# Altium schematic symbol library ICs.SchLib: 25 symbols
Pins are listed as number, name and electrical type; pins without a type are passive.

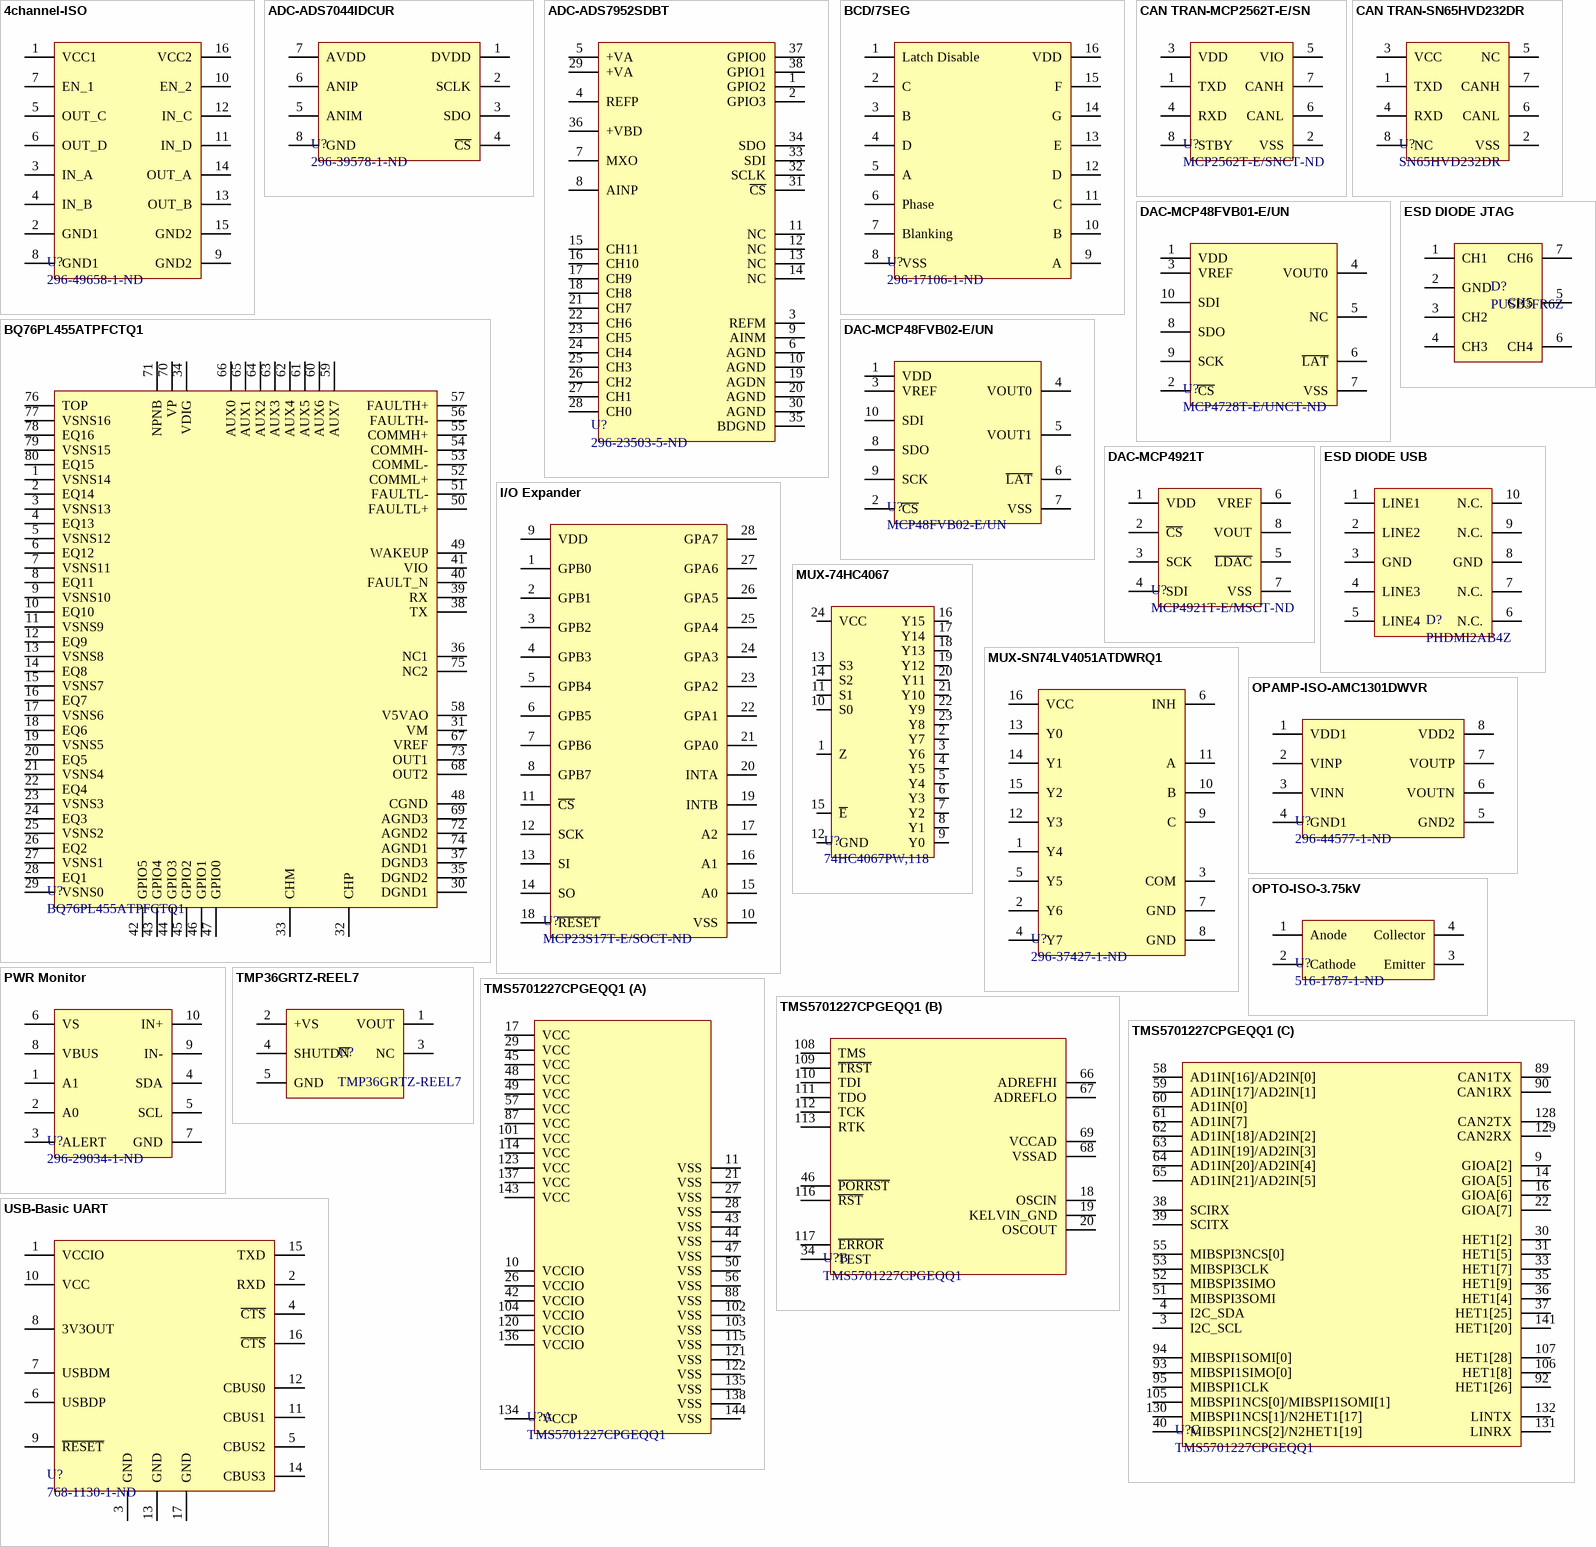
[diagram p0: symbols 4channel-ISO to USB-Basic UART]

## 4channel-ISO
designator U?, comment 296-49658-1-ND
DGTL ISO 2500VRMS 4CH GP 16SSOP; Manufacturer: Texas Instruments; Manufacturer Part Number: ISO7742DBQR; Number of Channels: 4; Isolated Power: No; Channel Type: Unidirectional; Data Rate: 100Mbps; Propagation Delay: 16ns; Pulse Width Distortion (PWD): 4.9ns; Supplier 1: Digi-Key; Stock 1: 0; Pricing 1: 1=2.99, 10=2.689, 25=2.5424, 100=2.0905, 250=1.8758, 500=1.808, 1000=1.5029 (USD); Mount: Surface Mount; Case/Package: SSOP; Number of Pins: 16; Min Operating Temperature: -55°C; Max Operating Temperature: 125°C; Type: General Purpose; Packaging: Tape and Reel; ComponentLink1URL: http://www.ti.com/lit/ds/symlink/iso7742.pdf?src-supplier=Digi-Key; ComponentLink1Description: http://www.ti.com/lit/ds/symlink/iso7742.pdf?src-supplier=Digi-Key; Supplier Part Number 1: 296-49658-6-ND
footprint 16-SSOP (SOP, 16-Leads, Body 4.91x3.90mm, Pitch 0.64mm, IPC Medium Density)
pins: 1 VCC1, 2 GND1, 3 IN_A, 4 IN_B, 5 OUT_C, 6 OUT_D, 7 EN_1, 8 GND1, 9 GND2, 10 EN_2, 11 IN_D, 12 IN_C, 13 OUT_B, 14 OUT_A, 15 GND2, 16 VCC2

## ADC-ADS7044IDCUR
designator U?, comment 296-39578-1-ND
IC ADC 12BIT SAR 8VSSOP; Manufacturer: Texas Instruments; Manufacturer Part Number: ADS7044IDCUT; Number of Bits: 12; Sampling Rate: 1MS/s; Number of Inputs: 1; Interface: SPI; Resolution: 12b; Polarity: Unipolar; Signal to Noise Ratio (SNR): 71dB; Supply Type: Analog,Digital; Max Power Dissipation: 900uW; Min Dual Supply Voltage: 1.8V; Max Supply Voltage: 3.6V; Integral Nonlinearity (INL): 2LSB; Supplier 1: Digi-Key; Stock 1: 68; Pricing 1: 1=2.66, 10=2.385, 25=2.2544, 100=1.8537 (USD); Mount: Surface Mount; Case/Package: SOP; Number of Pins: 8; Weight: 0.030018oz; Contact Plating: Gold; Min Operating Temperature: -40°C; Max Operating Temperature: 125°C; Packaging: Tape and Reel; Number of A/D Converters: 1; Number of Analog Inputs: 1; Number of Channels: 1; Package Quantity: 250; Max Dual Supply Voltage: 3.6V; Lead Free: Lead Free; ComponentLink1URL: http://www.ti.com/general/docs/lit/getliterature.tsp?genericPartNumber=ADS7044&&fileType=pdf&src-supplier=Avnet; ComponentLink1Description: http://www.ti.com/general/docs/lit/getliterature.tsp?genericPartNumber=ADS7044&&fileType=pdf&src-supplier=Avnet; ComponentLink2URL: http://www.ti.com/lit/ds/symlink/ads7044.pdf?src-supplier=Digi-Key; ComponentLink2Description: http://www.ti.com/lit/ds/symlink/ads7044.pdf?src-supplier=Digi-Key; ComponentLink3URL: http://www.ti.com/lit/gpn/ads7044?src-supplier=Mouser; ComponentLink3Description: http://www.ti.com/lit/gpn/ads7044?src-supplier=Mouser; Supplier Part Number 1: 296-39578-6-ND
footprint 8VSSOP (TSSOP, 8-Leads, Body 2.00x2.30mm, Pitch 0.50mm, IPC Medium Density)
pins: 1 DVDD, 2 SCLK, 3 SDO, 4 ~{CS}, 5 ANIM, 6 ANIP, 7 AVDD, 8 GND

## ADC-ADS7952SDBT
designator U?, comment 296-23503-5-ND
IC ADC 12BIT SAR 38TSSOP; Manufacturer: Texas Instruments; Manufacturer Part Number: ADS7952SDBT; Nominal Supply Current: 2.3mA; Min Supply Voltage: 2.7V; Max Supply Voltage: 5.25V; Operating Supply Voltage: 3.3V; Interface: SPI; Number of Channels: 12; Sampling Rate: 1MS/s; Number of Converters: 1; Resolution: 12b; Polarity: Unipolar; Supply Type: Analog,Digital,Single; Integral Nonlinearity (INL): 1.5LSB; Signal to Noise Ratio (SNR): 71.7dB; Power Consumption: 11.5mW; Full Scale Error: 2LSB; Power Dissipation: 14.5mW; Supplier 1: Digi-Key; Stock 1: 1436; Pricing 1: 1=9.3, 10=8.4, 25=8.0092, 100=6.6419, 250=6.05584, 500=5.66516, 1000=5.0791 (USD); Mount: Surface Mount; Case/Package: TSSOP; Number of Pins: 38; Contact Plating: Gold; Min Operating Temperature: -40°C; Max Operating Temperature: 125°C; Packaging: Rail/Tube; Package Quantity: 50; Number of Bits: 12; Number of Elements: 1; Number of A/D Converters: 1; Number of Analog Inputs: 12; Conversion Rate: 1MS/s; Number of Inputs: 12; Radiation Hardening: No; REACH SVHC: No SVHC; Lead Free: Lead Free; ComponentLink1URL: http://www.ti.com/general/docs/lit/getliterature.tsp?genericPartNumber=ADS7954&&fileType=pdf&src-supplier=Avnet; ComponentLink1Description: http://www.ti.com/general/docs/lit/getliterature.tsp?genericPartNumber=ADS7954&&fileType=pdf&src-supplier=Avnet; ComponentLink2URL: http://www.ti.com/lit/ds/symlink/ads7952.pdf?src-supplier=Digi-Key; ComponentLink2Description: http://www.ti.com/lit/ds/symlink/ads7952.pdf?src-supplier=Digi-Key; ComponentLink3URL: http://www.produktinfo.conrad.com/datenblaetter/1100000-1199999/001186285-da-01-en-IC_ADC_12BIT_1M_ADS7952SDBT_TSSOP_38_TID.pdf?src-supplier=Conrad; ComponentLink3Description: http://www.produktinfo.conrad.com/datenblaetter/1100000-1199999/001186285-da-01-en-IC_ADC_12BIT_1M_ADS7952SDBT_TSSOP_38_TID.pdf?src-supplier=Conrad; Supplier Part Number 1: 296-23503-5-ND
footprint 38-TSSOP (TSSOP, 38-Leads, Body 9.70x4.40mm, Pitch 0.50mm, IPC Medium Density)
pins: 1 GPIO2, 2 GPIO3, 3 REFM, 4 REFP, 5 +VA, 6 AGND, 7 MXO, 8 AINP, 9 AINM, 10 AGND, 11 NC, 12 NC, 13 NC, 14 NC, 15 CH11, 16 CH10, 17 CH9, 18 CH8, 19 AGDN, 20 AGND, 21 CH7, 22 CH6, 23 CH5, 24 CH4, 25 CH3, 26 CH2, 27 CH1, 28 CH0, 29 +VA, 30 AGND, 31 ~{CS}, 32 SCLK, 33 SDI, 34 SDO, 35 BDGND, 36 +VBD, 37 GPIO0, 38 GPIO1

## BCD/7SEG
designator U?, comment 296-17106-1-ND
IC DRVR 7 SEGMNT 1 DIGIT 16TSSOP; Manufacturer: Texas Instruments; Manufacturer Part Number: CD4543BPWR; Number of Inputs: 4; Number of Outputs: 7; Propagation Delay: 400ns; Max Supply Voltage: 18V; Min Supply Voltage: 3V; Number of Elements: 1; Operating Supply Current: 40nA; Logic Function: Demultiplexer,Decoder; Polarity: Non-Inverting; Turn-On Delay Time: 1200ns; High Level Output Current: -3.33mA; Low Level Output Current: 4.2mA; Quiescent Current: 100uA; Bandwidth: 8MHz; Display Type: LCD; Supplier 1: Digi-Key; Stock 1: 1758; Pricing 1: 1=0.42, 10=0.359, 100=0.2682, 500=0.21074, 1000=0.16284 (USD); Case/Package: TSSOP; Number of Pins: 16; Weight: 0.002183oz; Contact Plating: Gold; Min Operating Temperature: -55°C; Max Operating Temperature: 125°C; Packaging: Tape and Reel; Package Quantity: 1; Min Input Voltage: 3V; Number of Input Lines: 4; Number of Output Lines: 7; Number of Bits: 7; Number of Channels: 4; Lead Free: Lead Free; ComponentLink1URL: http://www.ti.com/general/docs/lit/getliterature.tsp?genericPartNumber=CD4543B&&fileType=pdf&src-supplier=Avnet; ComponentLink1Description: http://www.ti.com/general/docs/lit/getliterature.tsp?genericPartNumber=CD4543B&&fileType=pdf&src-supplier=Avnet; ComponentLink2URL: http://www.ti.com/lit/ds/symlink/cd4543b.pdf?src-supplier=Digi-Key; ComponentLink2Description: http://www.ti.com/lit/ds/symlink/cd4543b.pdf?src-supplier=Digi-Key; Supplier Part Number 1: 296-17106-6-ND
footprint 16-TSSOP (TSOP, 16-Leads, Body 5.00x4.40mm, Pitch 0.65mm, IPC Medium Density)
pins: 1 Latch Disable , 2 C, 3 B, 4 D, 5 A, 6 Phase, 7 Blanking , 8 VSS, 9 A, 10 B, 11 C, 12 D, 13 E, 14 G, 15 F, 16 VDD

## BQ76PL455ATPFCTQ1
designator U?
IC BATT MONITOR/PROTECT 80TQFP; Manufacturer: Texas Instruments; Supplier 1: Digi-Key; Manufacturer Part Number: BQ76PL455ATPFCTQ1; Stock 1: 226; Pricing 1: 1=20.82, 10=19.132, 25=18.3392, 100=15.3652 (USD); Mount: Surface Mount; Case/Package: TQFP; Contact Plating: Gold; Min Operating Temperature: -40°C; Max Operating Temperature: 105°C; Lead Free: Lead Free; ComponentLink1URL: http://www.ti.com/lit/pdf/sluub67?src-supplier=Digi-Key; ComponentLink1Description: http://www.ti.com/lit/pdf/sluub67?src-supplier=Digi-Key; ComponentLink2URL: http://www.ti.com/lit/gpn/bq76pl455a-q1?src-supplier=Mouser; ComponentLink2Description: http://www.ti.com/lit/gpn/bq76pl455a-q1?src-supplier=Mouser; ComponentLink3URL: http://www.ti.com/general/docs/lit/getliterature.tsp?genericPartNumber=BQ76PL455A-Q1&&fileType=pdf&src-supplier=Avnet; ComponentLink3Description: http://www.ti.com/general/docs/lit/getliterature.tsp?genericPartNumber=BQ76PL455A-Q1&&fileType=pdf&src-supplier=Avnet; ComponentLink4URL: http://www.ti.com/general/docs/suppproductinfo.tsp?distId=10&amp;gotoUrl=http%3A%2F%2Fwww.ti.com%2Flit%2Fgpn%2Fbq76pl455a-q1&src-supplier=Digi-Key; ComponentLink4Description: http://www.ti.com/general/docs/suppproductinfo.tsp?distId=10&amp;gotoUrl=http%3A%2F%2Fwww.ti.com%2Flit%2Fgpn%2Fbq76pl455a-q1&src-supplier=Digi-Key; Supplier Part Number 1: 296-48288-6-ND
footprint BQ76PL455A (TSQFP, 80-Leads, Body 12.00x12.00mm, Pitch 0.50mm, IPC Medium Density)
pins: 1 VSNS14, 2 EQ14, 3 VSNS13, 4 EQ13, 5 VSNS12, 6 EQ12, 7 VSNS11, 8 EQ11, 9 VSNS10, 10 EQ10, 11 VSNS9, 12 EQ9, 13 VSNS8, 14 EQ8, 15 VSNS7, 16 EQ7, 17 VSNS6, 18 EQ6, 19 VSNS5, 20 EQ5, 21 VSNS4, 22 EQ4, 23 VSNS3, 24 EQ3, 25 VSNS2, 26 EQ2, 27 VSNS1, 28 EQ1, 29 VSNS0, 30 DGND1, 31 VM, 32 CHP, 33 CHM, 34 VDIG, 35 DGND2, 36 NC1, 37 DGND3, 38 TX, 39 RX, 40 FAULT_N, 41 VIO, 42 GPIO5, 43 GPIO4, 44 GPIO3, 45 GPIO2, 46 GPIO1, 47 GPIO0, 48 CGND, 49 WAKEUP, 50 FAULTL+, 51 FAULTL-, 52 COMML+, 53 COMML-, 54 COMMH-, 55 COMMH+, 56 FAULTH-, 57 FAULTH+, 58 V5VAO, 59 AUX7, 60 AUX6, 61 AUX5, 62 AUX4, 63 AUX3, 64 AUX2, 65 AUX1, 66 AUX0, 67 VREF, 68 OUT2, 69 AGND3, 70 VP, 71 NPNB, 72 AGND2, 73 OUT1, 74 AGND1, 75 NC2, 76 TOP, 77 VSNS16, 78 EQ16, 79 VSNS15, 80 EQ15

## CAN TRAN-MCP2562T-E/SN
designator U?, comment MCP2562T-E/SNCT-ND
IC TRANSCEIVER HALF 1/1 8SOIC; Manufacturer: Microchip; Propagation Delay: 125ns; Data Rate: 1Mbps; Nominal Supply Current: 85uA; Max Supply Voltage: 5.5V; Min Supply Voltage: 4.5V; Number of Transceivers: 1; Receiver Hysteresis: 200mV; Supplier 1: Digi-Key; Manufacturer Part Number: MCP2562T-E/SN; Stock 1: 0; Pricing 1: 1=0.9, 25=0.75, 100=0.68 (USD); Mount: Surface Mount; Case/Package: SOIC; Number of Pins: 8; Min Operating Temperature: -40°C; Max Operating Temperature: 125°C; Packaging: Tape and Reel; Package Quantity: 3300; Turn-On Delay Time: 125ns; Radiation Hardening: No; Lead Free: Lead Free; ComponentLink1URL: http://ww1.microchip.com/downloads/en/DeviceDoc/25167B.pdf?src-supplier=Digi-Key; ComponentLink1Description: http://ww1.microchip.com/downloads/en/DeviceDoc/25167B.pdf?src-supplier=Digi-Key; ComponentLink2URL: http://ww1.microchip.com/downloads/en/DeviceDoc/25167B.pdf?src-supplier=Avnet; ComponentLink2Description: http://ww1.microchip.com/downloads/en/DeviceDoc/25167B.pdf?src-supplier=Avnet; Supplier Part Number 1: MCP2562T-E/SNDKR-ND
footprint 8-SOIC w/o THRM (SOIC, 8-Leads, Body 4.90x3.90mm, Pitch 1.27mm, IPC Medium Density)
pins: 1 TXD, 2 VSS, 3 VDD, 4 RXD, 5 VIO, 6 CANL, 7 CANH, 8 STBY

## CAN TRAN-SN65HVD232DR
designator U?, comment SN65HVD232DR
IC TRANSCEIVER HALF 1/1 8SOIC; Manufacturer: Texas Instruments; Data Rate: 1Mbps; Min Supply Voltage: 3V; Max Supply Voltage: 3.6V; Nominal Supply Current: 17mA; Number of Transceivers: 1; Supplier 1: Digi-Key; Manufacturer Part Number: SN65HVD232DR; Stock 1: 13746; Pricing 1: 1=1.95, 10=1.749, 25=1.65, 100=1.32, 250=1.155, 500=1.122, 1000=0.891 (USD); Case/Package: D; Number of Pins: 8; Weight: 0.002561oz; Min Operating Temperature: -40°C; Max Operating Temperature: 85°C; Packaging: Tape and Reel; Package Quantity: 1; Number of Transmit Buffers: 1; Number of Receive Buffers: 1; Number of Drivers: 1; Number of Receivers: 1; Radiation Hardening: No; REACH SVHC: No SVHC; Lead Free: Lead Free; ComponentLink1URL: https://www.verical.com/server-webapp/html/getDatasheet?partID=107534&src-supplier=Verical; ComponentLink1Description: https://www.verical.com/server-webapp/html/getDatasheet?partID=107534&src-supplier=Verical; ComponentLink2URL: http://www.ti.com/lit/ds/symlink/sn65hvd230.pdf?src-supplier=Digi-Key; ComponentLink2Description: http://www.ti.com/lit/ds/symlink/sn65hvd230.pdf?src-supplier=Digi-Key; Supplier Part Number 1: 296-26344-6-ND
footprint 8-SOIC w/o THRM (SOIC, 8-Leads, Body 4.90x3.90mm, Pitch 1.27mm, IPC Medium Density)
pins: 1 TXD, 2 VSS, 3 VCC, 4 RXD, 5 NC, 6 CANL, 7 CANH, 8 NC

## DAC-MCP48FVB01-E/UN
designator U?, comment MCP4728T-E/UNCT-ND
IC DAC 12BIT V-OUT 10MSOP; Manufacturer: Microchip; Interface: I2C,Serial,2-Wire; Number of DAC Channels: 4; Number of Bits: 12; Settling Time: 6us; Differential Output: No; Resolution: 12b; Min Supply Voltage: 2.7V; Max Supply Voltage: 5.5V; Polarity: Unipolar; Integral Nonlinearity (INL): 13LSB; Output Type: Voltage; Supplier 1: Digi-Key; Manufacturer Part Number: MCP4728T-E/UN; Stock 1: 10584; Pricing 1: 1=1.89, 25=1.58, 100=1.44 (USD); Mount: Surface Mount; Case/Package: MSOP; Number of Pins: 10; Min Operating Temperature: -40°C; Max Operating Temperature: 125°C; Number of Channels: 4; Package Quantity: 2500; Packaging: Tape and Reel; Number of D/A Converters: 4; Number of Converters: 4; Length: 3mm; Height: 0.95mm; Width: 3mm; Radiation Hardening: No; Lead Free: Lead Free; ComponentLink1URL: http://ww1.microchip.com/downloads/en/DeviceDoc/22187E.pdf?src-supplier=Avnet; ComponentLink1Description: http://ww1.microchip.com/downloads/en/DeviceDoc/22187E.pdf?src-supplier=Avnet; ComponentLink2URL: http://www.microchip.com/mymicrochip/filehandler.aspx?ddocname=en542384&src-supplier=Future+Electronics; ComponentLink2Description: http://www.microchip.com/mymicrochip/filehandler.aspx?ddocname=en542384&src-supplier=Future+Electronics; ComponentLink3URL: http://ww1.microchip.com/downloads/en/DeviceDoc/22187E.pdf?src-supplier=Digi-Key; ComponentLink3Description: http://ww1.microchip.com/downloads/en/DeviceDoc/22187E.pdf?src-supplier=Digi-Key; Supplier Part Number 1: MCP4728T-E/UNDKR-ND
footprint 10MSOP (TSSOP, 10-Leads, Body 3.00x3.00mm, Pitch 0.50mm, IPC Medium Density)
pins: 1 VDD, 2 ~{CS}, 3 VREF, 4 VOUT0, 5 NC, 6 ~{LAT}, 7 VSS, 8 SDO, 9 SCK, 10 SDI

## DAC-MCP48FVB02-E/UN
designator U?, comment MCP48FVB02-E/UN
IC DAC 8BIT V-OUT 10MSOP; Manufacturer: Microchip; Number of Bits: 8; Number of D/A Converters: 2; Settling Time: 7.8us; Differential Output: No; Interface: SPI; Resolution: 8b; Supplier 1: Digi-Key; Manufacturer Part Number: MCP48FVB02-E/UN; Stock 1: 418; Pricing 1: 1=1.16, 25=0.97, 100=0.88 (USD); Case/Package: MSOP; Number of Pins: 10; Min Operating Temperature: -40°C; Max Operating Temperature: 125°C; Packaging: Rail/Tube; REACH SVHC: No SVHC; ComponentLink1URL: http://www.farnell.com/datasheets/2002391.pdf?src-supplier=Element14; ComponentLink1Description: http://www.farnell.com/datasheets/2002391.pdf?src-supplier=Element14; ComponentLink2URL: http://www.farnell.com/datasheets/2002391.pdf?src-supplier=Farnell; ComponentLink2Description: http://www.farnell.com/datasheets/2002391.pdf?src-supplier=Farnell; ComponentLink3URL: http://www.microchip.com/mymicrochip/filehandler.aspx?ddocname=en576860&src-supplier=Digi-Key; ComponentLink3Description: http://www.microchip.com/mymicrochip/filehandler.aspx?ddocname=en576860&src-supplier=Digi-Key; Supplier Part Number 1: MCP48FVB02-E/UN-ND
footprint 10MSOP (TSSOP, 10-Leads, Body 3.00x3.00mm, Pitch 0.50mm, IPC Medium Density)
pins: 1 VDD, 2 ~{CS}, 3 VREF, 4 VOUT0, 5 VOUT1, 6 ~{LAT}, 7 VSS, 8 SDO, 9 SCK, 10 SDI

## DAC-MCP4921T
designator U?, comment MCP4921T-E/MSCT-ND
IC DAC 12BIT V-OUT 8MSOP; Manufacturer: Microchip; Interface: SPI,Serial; Number of DAC Channels: 1; Operating Supply Voltage: 5V; Min Supply Voltage: 2.7V; Max Supply Voltage: 5.5V; Settling Time: 4.5us; Number of Bits: 12; Resolution: 12b; Supply Type: Single; Integral Nonlinearity (INL): 12LSB; Input Offset Voltage (Vos): 820uV; Nominal Supply Current: 175uA; Output Type: Voltage; Supplier 1: Digi-Key; Manufacturer Part Number: MCP4921T-E/MS; Stock 1: 3345; Pricing 1: 1=1.97, 25=1.64, 100=1.49 (USD); Mount: Surface Mount; Case/Package: MSOP; Number of Pins: 8; Min Operating Temperature: -40°C; Max Operating Temperature: 125°C; Packaging: Tape and Reel; Number of Channels: 1; Package Quantity: 1; Number of Converters: 1; Radiation Hardening: No; REACH SVHC: No SVHC; Lead Free: Lead Free; ComponentLink1URL: http://ww1.microchip.com/downloads/en/DeviceDoc/22248a.pdf?src-supplier=Avnet; ComponentLink1Description: http://ww1.microchip.com/downloads/en/DeviceDoc/22248a.pdf?src-supplier=Avnet; ComponentLink2URL: http://www.microchip.com/mymicrochip/filehandler.aspx?ddocname=en023833&src-supplier=Digi-Key; ComponentLink2Description: http://www.microchip.com/mymicrochip/filehandler.aspx?ddocname=en023833&src-supplier=Digi-Key; ComponentLink3URL: http://ww1.microchip.com/downloads/en/DeviceDoc/22248a.pdf?src-supplier=Element14; ComponentLink3Description: http://ww1.microchip.com/downloads/en/DeviceDoc/22248a.pdf?src-supplier=Element14; ComponentLink4URL: http://ww1.microchip.com/downloads/en/DeviceDoc/22248a.pdf?src-supplier=Avnet+Europe; ComponentLink4Description: http://ww1.microchip.com/downloads/en/DeviceDoc/22248a.pdf?src-supplier=Avnet+Europe; ComponentLink5URL: http://www.microchip.com/mymicrochip/filehandler.aspx?ddocname=en547911&src-supplier=Future+Electronics; ComponentLink5Description: http://www.microchip.com/mymicrochip/filehandler.aspx?ddocname=en547911&src-supplier=Future+Electronics; ComponentLink6URL: http://www.produktinfo.conrad.com/datenblaetter/1000000-1099999/001083287-da-01-en-IC_DAC_12_W_SPI_MCP4921T_E_MS_MSOP_8_MCP.pdf?src-supplier=Conrad; ComponentLink6Description: http://www.produktinfo.conrad.com/datenblaetter/1000000-1099999/001083287-da-01-en-IC_DAC_12_W_SPI_MCP4921T_E_MS_MSOP_8_MCP.pdf?src-supplier=Conrad; Supplier Part Number 1: MCP4921T-E/MSDKR-ND
footprint 8MSOP (TSOP, 8-Leads, Body 3.00x3.00mm, Pitch 0.65mm, IPC Medium Density)
pins: 1 VDD, 2 ~{CS}, 3 SCK, 4 SDI, 5 ~{LDAC}, 6 VREF, 7 VSS, 8 VOUT

## ESD DIODE JTAG
designator D?, comment PUSB3FR6Z
3V (Typ) Clamp 5A (8/20µs) Ipp Tvs Diode Surface Mount 7-XSON (1.1x2.1); Manufacturer 1: Nexperia; Supplier 1: RSComponents; Manufacturer Part Number 1: PUSB3FR6Z; Stock 1: 0; Supplier Part Number 1: 1513163P
footprint XSON-7
pins: 1 CH1, 2 GND, 3 CH2, 4 CH3, 5 CH5, 6 CH4, 7 CH6

## ESD DIODE USB
designator D?, comment PHDMI2AB4Z
5V (Typ) Clamp 7A (8/20µs) Ipp Tvs Diode Surface Mount DFN2510A-10; Manufacturer 1: Nexperia; Supplier 1: Digi-Key; Manufacturer Part Number 1: PHDMI2AB4Z; Stock 1: 0; Pricing 1: 5000=0.1276, 10000=0.11704, 25000=0.11264, 50000=0.11, 125000=0.1056 (USD); Supplier Part Number 1: 1727-7820-2-ND
footprint DFN2510A-10
pins: 1 LINE1, 2 LINE2, 3 GND, 4 LINE3, 5 LINE4, 6 N.C., 7 N.C., 8 GND, 9 N.C., 10 N.C.

## I/O Expander
designator U?, comment MCP23S17T-E/SOCT-ND
IC I/O EXPANDER SPI 16B 28SOIC; Manufacturer: Microchip; Interface: SPI,Serial; Min Supply Voltage: 4.5V; Max Supply Voltage: 5.5V; Number of Channels: 1; Nominal Supply Current: 1mA; Number of I/Os: 16; Power Dissipation: 700mW; Frequency: 10MHz; Supplier 1: Digi-Key; Manufacturer Part Number: MCP23S17T-E/SO; Stock 1: 3657; Pricing 1: 1=1.26, 25=1.05, 100=0.95 (USD); Mount: Surface Mount; Case/Package: SOIC; Number of Pins: 28; Min Operating Temperature: -40°C; Max Operating Temperature: 125°C; Packaging: Tape and Reel; Package Quantity: 1600; Max Frequency: 10MHz; Number of Bits: 16; REACH SVHC: No SVHC; Lead Free: Lead Free; ComponentLink1URL: http://ww1.microchip.com/downloads/en/DeviceDoc/21952b.pdf?src-supplier=Digi-Key; ComponentLink1Description: http://ww1.microchip.com/downloads/en/DeviceDoc/21952b.pdf?src-supplier=Digi-Key; ComponentLink2URL: http://www.farnell.com/datasheets/12179.pdf?src-supplier=Element14; ComponentLink2Description: http://www.farnell.com/datasheets/12179.pdf?src-supplier=Element14; ComponentLink3URL: http://www.microchip.com/mymicrochip/filehandler.aspx?ddocname=en023709&src-supplier=Future+Electronics; ComponentLink3Description: http://www.microchip.com/mymicrochip/filehandler.aspx?ddocname=en023709&src-supplier=Future+Electronics; ComponentLink4URL: http://ww1.microchip.com/downloads/en/DeviceDoc/21952b.pdf?src-supplier=Avnet+Europe; ComponentLink4Description: http://ww1.microchip.com/downloads/en/DeviceDoc/21952b.pdf?src-supplier=Avnet+Europe; ComponentLink5URL: http://ww1.microchip.com/downloads/en/DeviceDoc/21952b.pdf?src-supplier=Farnell; ComponentLink5Description: http://ww1.microchip.com/downloads/en/DeviceDoc/21952b.pdf?src-supplier=Farnell; ComponentLink6URL: http://www.mouser.com/ds/2/268/21952b-70868.pdf?src-supplier=Mouser; ComponentLink6Description: http://www.mouser.com/ds/2/268/21952b-70868.pdf?src-supplier=Mouser; Supplier Part Number 1: MCP23S17T-E/SODKR-ND
footprint 28-SOIC (SOIC, 28-Leads, Body 17.90x7.50mm, Pitch 1.27mm, IPC Medium Density)
pins: 1 GPB0, 2 GPB1, 3 GPB2, 4 GPB3, 5 GPB4, 6 GPB5, 7 GPB6, 8 GPB7, 9 VDD, 10 VSS, 11 ~{CS}, 12 SCK, 13 SI, 14 SO, 15 A0, 16 A1, 17 A2, 18 ~{RESET}, 19 INTB, 20 INTA, 21 GPA0, 22 GPA1, 23 GPA2, 24 GPA3, 25 GPA4, 26 GPA5, 27 GPA6, 28 GPA7

## MUX-74HC4067
designator U?, comment 74HC4067PW,118
IC MUX/DEMUX 1X16 24TSSOP; Manufacturer: Nexperia USA; Supplier 1: Digi-Key; Manufacturer Part Number: 74HC4067PW,118; Stock 1: 7949; Pricing 1: 1=0.87, 10=0.779, 25=0.7392, 100=0.6072, 250=0.5676, 500=0.5016, 1000=0.396 (USD); ComponentLink1URL: https://assets.nexperia.com/documents/data-sheet/74HC_HCT4067.pdf?src-supplier=Digi-Key; ComponentLink1Description: https://assets.nexperia.com/documents/data-sheet/74HC_HCT4067.pdf?src-supplier=Digi-Key; Supplier Part Number 1: 1727-2042-6-ND
footprint 24-TSSOP (TSOP, 24-Leads, Body 7.80x4.40mm, Pitch 0.65mm, IPC Medium Density)
pins: 1 Z, 2 Y7, 3 Y6, 4 Y5, 5 Y4, 6 Y3, 7 Y2, 8 Y1, 9 Y0, 10 S0, 11 S1, 12 GND, 13 S3, 14 S2, 15 ~{E}, 16 Y15, 17 Y14, 18 Y13, 19 Y12, 20 Y11, 21 Y10, 22 Y9, 23 Y8, 24 VCC

## MUX-SN74LV4051ATDWRQ1
designator U?, comment 296-37427-1-ND
IC MUX/DEMUX 8X1 16SOIC; Manufacturer: Texas Instruments; Manufacturer Part Number: SN74LV4051ATDWRQ1; Max Supply Voltage: 5.5V; Min Supply Voltage: 2V; Bandwidth: 35MHz; Propagation Delay: 7ns; Number of Inputs: 8; Number of Outputs: 1; Logic Function: Multiplexer,Demultiplexer; On-State Resistance: 75R; Operating Supply Current: 20uA; Turn-On Delay Time: 20ns; Supply Type: Single; Supplier 1: Digi-Key; Stock 1: 2359; Pricing 1: 1=0.7, 10=0.617, 25=0.5796, 100=0.4731, 250=0.43944, 500=0.374, 1000=0.2992 (USD); Mount: Surface Mount; Case/Package: SOIC; Number of Pins: 16; Weight: 0.014829oz; Min Operating Temperature: -40°C; Max Operating Temperature: 105°C; Packaging: Tape and Reel; Package Quantity: 2000; Number of Channels: 1; Turn-Off Delay Time: 20ns; Number of Circuits: 1; -3db Bandwidth: 35MHz; Number of Bits: 8; Radiation Hardening: No; Lead Free: Lead Free; ComponentLink1URL: https://www.verical.com/server-webapp/html/getDatasheet?partID=348177&src-supplier=Verical; ComponentLink1Description: https://www.verical.com/server-webapp/html/getDatasheet?partID=348177&src-supplier=Verical; ComponentLink2URL: http://focus.ti.com/lit/ds/symlink/sn74lv4051a-q1.pdf?src-supplier=Avnet; ComponentLink2Description: http://focus.ti.com/lit/ds/symlink/sn74lv4051a-q1.pdf?src-supplier=Avnet; ComponentLink3URL: http://www.ti.com/lit/ds/symlink/sn74lv4051a-q1.pdf?src-supplier=Digi-Key; ComponentLink3Description: http://www.ti.com/lit/ds/symlink/sn74lv4051a-q1.pdf?src-supplier=Digi-Key; Supplier Part Number 1: 296-37427-6-ND
footprint 16-SOIC (SOIC, 16-Leads, Body 10.30x7.50mm, Pitch 1.27mm, IPC Medium Density)
pins: 1 Y4, 2 Y6, 3 COM, 4 Y7, 5 Y5, 6 INH, 7 GND, 8 GND, 9 C, 10 B, 11 A, 12 Y3, 13 Y0, 14 Y1, 15 Y2, 16 VCC

## OPAMP-ISO-AMC1301DWVR
designator U?, comment 296-44577-1-ND
IC OPAMP ISOLATION 1 CIRC 8SOIC; Manufacturer: Texas Instruments; Manufacturer Part Number: AMC1301DWVR; Number of Circuits: 1; Gain Bandwidth Product: 1MHz; Input Bias Current: 60uA; Input Offset Voltage (Vos): 50uV; Operating Supply Current: 5.9mA; Output Current per Channel: 13mA; Isolation Voltage: 1kV; Bandwidth: 210kHz; Supplier 1: Digi-Key; Stock 1: 2458; Pricing 1: 1=6.07, 10=5.487, 25=5.2316, 100=4.3384, 250=3.9556, 500=3.7004 (USD); Mount: Surface Mount; Case/Package: SOIC; Number of Pins: 8; Min Operating Temperature: -40°C; Max Operating Temperature: 125°C; Packaging: Cut Tape; Number of Amplifiers: 1; REACH SVHC: No SVHC; Lead Free: Lead Free; ComponentLink1URL: http://www.ti.com/lit/wp/sszy024/sszy024.pdf?src-supplier=Digi-Key; ComponentLink1Description: http://www.ti.com/lit/wp/sszy024/sszy024.pdf?src-supplier=Digi-Key; ComponentLink2URL: http://www.ti.com/lit/ds/symlink/amc1301.pdf?src-supplier=Farnell; ComponentLink2Description: http://www.ti.com/lit/ds/symlink/amc1301.pdf?src-supplier=Farnell; ComponentLink3URL: http://www.farnell.com/datasheets/2113482.pdf?src-supplier=Element14; ComponentLink3Description: http://www.farnell.com/datasheets/2113482.pdf?src-supplier=Element14; Supplier Part Number 1: 296-44577-6-ND
footprint 8-SOICW (SOIC, 8-Leads, Body 5.85x7.50mm, Pitch 1.27mm, IPC Medium Density)
pins: 1 VDD1, 2 VINP, 3 VINN, 4 GND1, 5 GND2, 6 VOUTN, 7 VOUTP, 8 VDD2

## OPTO-ISO-3.75kV
designator U?, comment 516-1787-1-ND
OPTOISO 3.75KV TRANS 4MINIFLAT; Manufacturer: Broadcom Avago; Manufacturer Part Number: HCPL-181-00BE; Number of Channels: 1; Collector Emitter Voltage (VCEO): 80V; Forward Current: 50mA; Forward Voltage: 1.4V; Rise Time: 18000ns; Max Power Dissipation: 170mW; Reverse Breakdown Voltage: 6V; Collector Emitter Saturation Voltage: 200mV; Current Transfer Ratio: 260%; Input Current: 20mA; Approvals: UL,CSA,VDE; Supplier 1: Digi-Key; Stock 1: 94429; Pricing 1: 1=0.56, 10=0.433, 100=0.2778, 500=0.23886, 1000=0.18443 (USD); Mount: Surface Mount; Case/Package: SMD/SMT; Number of Pins: 4; Min Operating Temperature: -55°C; Max Operating Temperature: 100°C; Packaging: Tape and Reel; Max Output Voltage: 80V; Output Current per Channel: 50mA; Isolation Voltage: 3.75kV; Package Quantity: 1; Max Collector Current: 50mA; Max Input Current: 50mA; Fall Time: 18000ns; Number of Elements: 1; Power Dissipation: 170mW; Number of Circuits: 1; Radiation Hardening: No; REACH SVHC: No SVHC; Lead Free: Lead Free; ComponentLink1URL: http://www.farnell.com/datasheets/317140.pdf?src-supplier=Farnell; ComponentLink1Description: http://www.farnell.com/datasheets/317140.pdf?src-supplier=Farnell; ComponentLink2URL: http://uk.rs-online.com/webdocs/0db8/0900766b80db8748.pdf?src-supplier=RSComponents; ComponentLink2Description: http://uk.rs-online.com/webdocs/0db8/0900766b80db8748.pdf?src-supplier=RSComponents; ComponentLink3URL: http://www1.futureelectronics.com/doc/AVAGO%20TECHNOLOGIES/HCPL-181-00BE.pdf?src-supplier=Future+Electronics; ComponentLink3Description: http://www1.futureelectronics.com/doc/AVAGO%20TECHNOLOGIES/HCPL-181-00BE.pdf?src-supplier=Future+Electronics; ComponentLink4URL: https://www.verical.com/server-webapp/html/getDatasheet?partID=142397&src-supplier=Verical; ComponentLink4Description: https://www.verical.com/server-webapp/html/getDatasheet?partID=142397&src-supplier=Verical; ComponentLink5URL: http://www.farnell.com/datasheets/317140.pdf?src-supplier=Element14; ComponentLink5Description: http://www.farnell.com/datasheets/317140.pdf?src-supplier=Element14; ComponentLink6URL: https://www.distrelec.biz/Web/Downloads/_t/ds/HCPL-181_eng_tds.pdf?mime=application%2Fpdf&src-supplier=Distrelec; ComponentLink6Description: https://www.distrelec.biz/Web/Downloads/_t/ds/HCPL-181_eng_tds.pdf?mime=application%2Fpdf&src-supplier=Distrelec; Supplier Part Number 1: 516-1787-6-ND
footprint 4-SSOP (SOP, 4-Leads, Body 3.70x4.40mm, Pitch 2.54mm, IPC Medium Density)
pins: 1 Anode, 2 Cathode, 3 Emitter, 4 Collector

## PWR Monitor
designator U?, comment 296-29034-1-ND
IC MONITOR PWR/CURR BIDIR 10MSOP; Manufacturer: Texas Instruments; Manufacturer Part Number: INA226AIDGSR; Min Supply Voltage: 2.7V; Max Supply Voltage: 5.5V; Nominal Supply Current: 330uA; Common Mode Rejection Ratio: 140dB; Output Current: 10mA; Input Bias Current: 10uA; Input Offset Voltage (Vos): 2.5uV; Accuracy: 0.02%; Supplier 1: Digi-Key; Stock 1: 12662; Pricing 1: 1=3.18, 10=2.856, 25=2.7, 100=2.22, 250=1.992, 500=1.92, 1000=1.596 (USD); Mount: Surface Mount; Case/Package: VSSOP; Number of Pins: 10; Contact Plating: Gold; Min Operating Temperature: -40°C; Max Operating Temperature: 125°C; Packaging: Tape and Reel; Package Quantity: 1; Radiation Hardening: No; REACH SVHC: No SVHC; Lead Free: Lead Free; ComponentLink1URL: http://www.ti.com/lit/ds/symlink/ina226.pdf?src-supplier=Digi-Key; ComponentLink1Description: http://www.ti.com/lit/ds/symlink/ina226.pdf?src-supplier=Digi-Key; ComponentLink2URL: http://www.ti.com/general/docs/lit/getliterature.tsp?genericPartNumber=INA226&&fileType=pdf&src-supplier=Avnet; ComponentLink2Description: http://www.ti.com/general/docs/lit/getliterature.tsp?genericPartNumber=INA226&&fileType=pdf&src-supplier=Avnet; ComponentLink3URL: http://www.ti.com/lit/gpn/ina226?src-supplier=Mouser; ComponentLink3Description: http://www.ti.com/lit/gpn/ina226?src-supplier=Mouser; ComponentLink4URL: http://www.farnell.com/datasheets/1840205.pdf?src-supplier=Element14; ComponentLink4Description: http://www.farnell.com/datasheets/1840205.pdf?src-supplier=Element14; Supplier Part Number 1: 296-29034-1-ND
footprint 10MSOP (TSSOP, 10-Leads, Body 3.00x3.00mm, Pitch 0.50mm, IPC Medium Density)
pins: 1 A1, 2 A0, 3 ALERT, 4 SDA, 5 SCL, 6 VS, 7 GND, 8 VBUS, 9 IN-, 10 IN+

## TMP36GRTZ-REEL7
designator U?
IC TEMP SENSOR ANALOG -40C TO 125C ANALOG DEVICES   TMP36GRTZ-REEL7   TEMPERATURE SENSOR, 3C, 5-SOT-23; Min Supply Voltage: 2.7V; Max Supply Voltage: 5.5V; Operating Supply Current: 50uA; Supplier 1: Digi-Key; Manufacturer: Analog Devices; Manufacturer Part Number: TMP36GRTZ-REEL7; Stock 1: 5163; Pricing 1: 1=1.59, 10=1.431, 25=1.35, 100=1.1502, 500=0.945, 1000=0.783 (USD); Case/Package: SOT-23; Number of Pins: 5; Min Operating Temperature: -40°C; Max Operating Temperature: 125°C; Package Quantity: 3000; Interface: Analog; Packaging: Tape and Reel; Nominal Supply Current: 50uA; Output Current: 50uA; Output Type: Analog; Length: 3mm; Width: 1.7mm; Height: 1.3mm; Radiation Hardening: No; REACH SVHC: No SVHC; Lead Free: Contains Lead; ComponentLink1URL: http://www.farnell.com/datasheets/1943729.pdf?src-supplier=Element14; ComponentLink1Description: http://www.farnell.com/datasheets/1943729.pdf?src-supplier=Element14; ComponentLink2URL: https://www.analog.com/media/en/technical-documentation/data-sheets/TMP35_36_37.pdf?src-supplier=Digi-Key; ComponentLink2Description: https://www.analog.com/media/en/technical-documentation/data-sheets/TMP35_36_37.pdf?src-supplier=Digi-Key; ComponentLink3URL: http://www.analog.com/static/imported-files/data_sheets/TMP35_36_37.pdf?src-supplier=Avnet+Europe; ComponentLink3Description: http://www.analog.com/static/imported-files/data_sheets/TMP35_36_37.pdf?src-supplier=Avnet+Europe; ComponentLink4URL: http://www.analog.com/static/imported-files/data_sheets/TMP35_36_37.pdf?src-supplier=Avnet; ComponentLink4Description: http://www.analog.com/static/imported-files/data_sheets/TMP35_36_37.pdf?src-supplier=Avnet; ComponentLink5URL: https://www.verical.com/server-webapp/html/getDatasheet?partID=86485&src-supplier=Verical; ComponentLink5Description: https://www.verical.com/server-webapp/html/getDatasheet?partID=86485&src-supplier=Verical; ComponentLink6URL: http://www.farnell.com/datasheets/1793789.pdf?src-supplier=Element14; ComponentLink6Description: http://www.farnell.com/datasheets/1793789.pdf?src-supplier=Element14; ComponentLink7URL: http://www.mouser.com/ds/2/609/TMP35_36_37-794389.pdf?src-supplier=Mouser; ComponentLink7Description: http://www.mouser.com/ds/2/609/TMP35_36_37-794389.pdf?src-supplier=Mouser; Supplier Part Number 1: TMP36GRTZ-REEL7CT-ND
footprint SOT-23-5 (SOT23, 5-Leads, Body 3.00x2.75mm, Pitch 0.95mm, IPC Medium Density)
pins: 1 VOUT, 2 +VS, 3 NC, 4 SHUTD~{N}, 5 GND

## TMS5701227CPGEQQ1
designator U?
IC MCU 16-Bit/32-Bit Hercules TMS570 ARM Cortex R4F RISC 1280KB Flash 1.2V/3.3V 144-Pin LQFP; Manufacturer: Texas Instruments; Frequency: 160MHz; Interface: I2C,SPI,CAN,Ethernet,UART,USART,LIN,EBI/EMI,SCI; Number of I/Os: 58; Oscillator Type: External; RAM Size: 192KB; Number of Timers/Counters: 2; Watchdog Timer: Yes; Memory Size: 1.25MB; Density: 1310720B; Peripherals: POR,PWM,WDT,DMA; Supplier 1: Digi-Key; Manufacturer Part Number: TMS5701227CPGEQQ1; Stock 1: 585; Pricing 1: 1=24.99, 10=23.046, 25=22.01, 100=19.6794, 250=18.77316, 500=17.86686 (USD); Case/Package: LQFP; Number of Pins: 144; Min Operating Temperature: -40°C; Max Operating Temperature: 125°C; Packaging: Tray; Number of Programmable I/O: 58; Max Frequency: 160MHz; Memory Type: FLASH; Number of GPIO: 58; Core Architecture: ARM; Lead Free: Lead Free; ComponentLink1URL: http://www.ti.com/lit/gpn/tms570ls1227?src-supplier=Mouser; ComponentLink1Description: http://www.ti.com/lit/gpn/tms570ls1227?src-supplier=Mouser; ComponentLink2URL: http://www.ti.com/general/docs/lit/getliterature.tsp?genericPartNumber=TMS570LS1227&&fileType=pdf&src-supplier=Avnet; ComponentLink2Description: http://www.ti.com/general/docs/lit/getliterature.tsp?genericPartNumber=TMS570LS1227&&fileType=pdf&src-supplier=Avnet; ComponentLink3URL: http://www.ti.com/lit/ml/mtqf017a/mtqf017a.pdf?src-supplier=Digi-Key; ComponentLink3Description: http://www.ti.com/lit/ml/mtqf017a/mtqf017a.pdf?src-supplier=Digi-Key; Supplier Part Number 1: 296-42451-ND
footprint TMS5701227 (TSQFP, 144-Leads, Body 20.00x20.00mm, Pitch 0.50mm, IPC Medium Density)
part A pins: 10 VCCIO, 11 VSS, 17 VCC, 21 VSS, 26 VCCIO, 27 VSS, 28 VSS, 29 VCC, 42 VCCIO, 43 VSS, 44 VSS, 45 VCC, 47 VSS, 48 VCC, 49 VCC, 50 VSS, 56 VSS, 57 VCC, 87 VCC, 88 VSS, 101 VCC, 102 VSS, 103 VSS, 104 VCCIO, 114 VCC, 115 VSS, 120 VCCIO, 121 VSS, 122 VSS, 123 VCC, 134 VCCP, 135 VSS, 136 VCCIO, 137 VCC, 138 VSS, 143 VCC, 144 VSS
part B pins: 18 OSCIN, 19 KELVIN_GND, 20 OSCOUT, 34 TEST, 46 ~{PORRST}, 66 ADREFHI, 67 ADREFLO, 68 VSSAD, 69 VCCAD, 108 TMS, 109 ~{TRST}, 110 TDI, 111 TDO, 112 TCK, 113 RTK, 116 ~{RST}, 117 ~{ERROR}
part C pins: 3 I2C_SCL, 4 I2C_SDA, 9 GIOA[2], 14 GIOA[5], 16 GIOA[6], 22 GIOA[7], 30 HET1[2], 31 HET1[5], 33 HET1[7], 35 HET1[9], 36 HET1[4], 37 HET1[25], 38 SCIRX, 39 SCITX, 40 MIBSPI1NCS[2]/N2HET1[19], 51 MIBSPI3SOMI, 52 MIBSPI3SIMO, 53 MIBSPI3CLK, 55 MIBSPI3NCS[0], 58 AD1IN[16]/AD2IN[0], 59 AD1IN[17]/AD2IN[1], 60 AD1IN[0], 61 AD1IN[7], 62 AD1IN[18]/AD2IN[2], 63 AD1IN[19]/AD2IN[3], 64 AD1IN[20]/AD2IN[4], 65 AD1IN[21]/AD2IN[5], 89 CAN1TX, 90 CAN1RX, 92 HET1[26], 93 MIBSPI1SIMO[0], 94 MIBSPI1SOMI[0], 95 MIBSPI1CLK, 105 MIBSPI1NCS[0]/MIBSPI1SOMI[1], 106 HET1[8], 107 HET1[28], 128 CAN2TX, 129 CAN2RX, 130 MIBSPI1NCS[1]/N2HET1[17], 131 LINRX, 132 LINTX, 141 HET1[20]

## USB-Basic UART
designator U?, comment 768-1130-1-ND
IC USB SERIAL BASIC UART 16QFN; Manufacturer: FTDI; Manufacturer Part Number: FT230XQ-R; Operating Supply Voltage: 5V; Data Rate: 12Mbps; Number of Channels: 1; Max Supply Voltage: 5.5V; Min Supply Voltage: 2.97V; Interface: USB,UART; Operating Supply Current: 8mA; Supplier 1: Digi-Key; Stock 1: 9404; Pricing 1: 1=2.04, 25=1.97, 100=1.9, 250=1.71, 500=1.54002, 1000=1.46001, 2500=1.4375 (USD); Mount: Surface Mount; Case/Package: QFN; Number of Pins: 16; Weight: 0.002014oz; Min Operating Temperature: -40°C; Max Operating Temperature: 85°C; Packaging: Tape and Reel; Package Quantity: 5000; Length: 4mm; Height: 0.75mm; Width: 4mm; Lead Free: Lead Free; ComponentLink1URL: http://www.ftdichip.com/Support/Documents/DataSheets/ICs/DS_FT230X.pdf?src-supplier=Future+Electronics; ComponentLink1Description: http://www.ftdichip.com/Support/Documents/DataSheets/ICs/DS_FT230X.pdf?src-supplier=Future+Electronics; ComponentLink2URL: http://www.alliedelec.com/images/products/datasheets/bm/FTDI/70403914.pdf?src-supplier=Allied+Electronics; ComponentLink2Description: http://www.alliedelec.com/images/products/datasheets/bm/FTDI/70403914.pdf?src-supplier=Allied+Electronics; ComponentLink3URL: https://media.digikey.com/pdf/Data%20Sheets/FTDI%20Chip%20PDFs/X-Chip_Series_Errata.pdf?src-supplier=Digi-Key; ComponentLink3Description: https://media.digikey.com/pdf/Data%20Sheets/FTDI%20Chip%20PDFs/X-Chip_Series_Errata.pdf?src-supplier=Digi-Key; ComponentLink4URL: http://www.ftdichip.com/Support/Documents/DataSheets/ICs/DS_FT230X.pdf?src-supplier=Digi-Key; ComponentLink4Description: http://www.ftdichip.com/Support/Documents/DataSheets/ICs/DS_FT230X.pdf?src-supplier=Digi-Key; ComponentLink5URL: http://uk.rs-online.com/webdocs/1102/0900766b811020cb.pdf?src-supplier=RSComponents; ComponentLink5Description: http://uk.rs-online.com/webdocs/1102/0900766b811020cb.pdf?src-supplier=RSComponents; Supplier Part Number 1: 768-1130-6-ND
footprint QFN-16 (QFN, 16-Leads, Body 4.00x4.00mm, Pitch 0.65mm, Thermal Pad 2.08x2.08mm, IPC Medium Density)
pins: 1 VCCIO, 2 RXD, 3 GND, 4 ~{CTS}, 5 CBUS2, 6 USBDP, 7 USBDM, 8 3V3OUT, 9 ~{RESET}, 10 VCC, 11 CBUS1, 12 CBUS0, 13 GND, 14 CBUS3, 15 TXD, 16 ~{CTS}, 17 GND

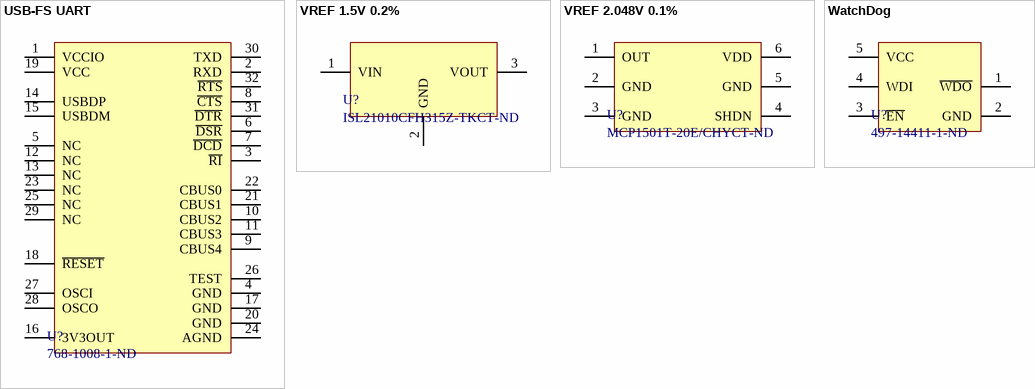
[diagram p1: symbols USB-FS UART to WatchDog]

## USB-FS UART
designator U?, comment 768-1008-1-ND
IC USB FS SERIAL UART 32-QFN; Manufacturer: FTDI; Manufacturer Part Number: FT232RQ-REEL; Max Supply Voltage: 5.25V; Min Supply Voltage: 3.3V; Operating Supply Voltage: 5V; Number of Channels: 1; Data Rate: 12Mbps; Operating Supply Current: 15mA; Supplier 1: Digi-Key; Stock 1: 28741; Pricing 1: 1=4.5, 10=4.05, 50=3.85, 100=3.65, 250=3.25, 500=2.85002, 1000=2.65, 2500=2.35001 (USD); Mount: Surface Mount; Case/Package: QFN EP; Number of Pins: 32; Weight: 0.006653oz; Min Operating Temperature: -40°C; Max Operating Temperature: 85°C; Packaging: Tape and Reel; Package Quantity: 6000; Interface: UART; Length: 5mm; Width: 5mm; Radiation Hardening: No; Lead Free: Lead Free; ComponentLink1URL: http://www.ftdichip.com/Support/Documents/AppNotes/AN_126_User_Guide_For_FT232_Factory%20test%20utility.pdf?src-supplier=Digi-Key; ComponentLink1Description: http://www.ftdichip.com/Support/Documents/AppNotes/AN_126_User_Guide_For_FT232_Factory%20test%20utility.pdf?src-supplier=Digi-Key; ComponentLink2URL: http://www.ftdichip.com/Support/Documents/DataSheets/ICs/DS_FT232R.pdf?src-supplier=Future+Electronics; ComponentLink2Description: http://www.ftdichip.com/Support/Documents/DataSheets/ICs/DS_FT232R.pdf?src-supplier=Future+Electronics; ComponentLink3URL: https://www.verical.com/server-webapp/html/getDatasheet?partID=644721&src-supplier=Verical; ComponentLink3Description: https://www.verical.com/server-webapp/html/getDatasheet?partID=644721&src-supplier=Verical; ComponentLink4URL: http://www.mouser.com/ds/2/163/DS_FT232R-11534.pdf?src-supplier=Mouser; ComponentLink4Description: http://www.mouser.com/ds/2/163/DS_FT232R-11534.pdf?src-supplier=Mouser; ComponentLink5URL: http://datasheet.iiic.cc/ftdi/FT232RQ-REEL.pdf?src-supplier=IIIC; ComponentLink5Description: http://datasheet.iiic.cc/ftdi/FT232RQ-REEL.pdf?src-supplier=IIIC; Supplier Part Number 1: 768-1008-1-ND
footprint QFN-32 (QFN, 32-Leads, Body 5.00x5.00mm, Pitch 0.50mm, Thermal Pad 3.30x3.30mm, IPC Medium Density)
pins: 1 VCCIO, 2 RXD, 3 ~{RI}, 4 GND, 5 NC, 6 ~{DSR}, 7 ~{DCD}, 8 ~{CTS}, 9 CBUS4, 10 CBUS2, 11 CBUS3, 12 NC, 13 NC, 14 USBDP, 15 USBDM, 16 3V3OUT, 17 GND, 18 ~{RESET}, 19 VCC, 20 GND, 21 CBUS1, 22 CBUS0, 23 NC, 24 AGND, 25 NC, 26 TEST, 27 OSCI, 28 OSCO, 29 NC, 30 TXD, 31 ~{DTR}, 32 ~{RTS}

## VREF 1.5V 0.2%
designator U?, comment ISL21010CFH315Z-TKCT-ND
IC VREF SERIES 0.2% SOT23-3; Supplier 1: Digi-Key; Supplier Part Number 1: ISL21010CFH315Z-TKCT-ND
footprint SOT-23-3 (SOT23, 3-Leads, Body 2.90x2.40mm, Pitch 0.92mm, IPC Medium Density)
pins: 1 VIN, 2 GND, 3 VOUT

## VREF 2.048V 0.1%
designator U?, comment MCP1501T-20E/CHYCT-ND
IC VREF SERIES 0.1% SOT23-6; Supplier 1: Digi-Key; Supplier Part Number 1: MCP1501T-20E/CHYCT-ND
footprint SOT-23-6 (SOT23, 6-Leads, Body 3.00x2.75mm, Pitch 0.95mm, IPC Medium Density)
pins: 1 OUT, 2 GND, 3 GND, 4 SHDN, 5 GND, 6 VDD

## WatchDog
designator U?, comment 497-14411-1-ND
IC SUPERVISOR 1 CHANNEL SOT23-5; Manufacturer: STMicroelectronics; Manufacturer Part Number: STWD100YNYWY3F; Number of Voltages Monitored: 1; Reset: Active Low; Reset Timeout: 1.12s; Max Supply Voltage: 5.5V; Operating Supply Current: 13uA; Max Power Dissipation: 320mW; Min Supply Voltage: 2.7V; Supplier 1: Digi-Key; Stock 1: 3334; Pricing 1: 1=0.91, 10=0.817, 25=0.7756, 100=0.5956, 250=0.52632, 500=0.4986, 1000=0.3878 (USD); Mount: Surface Mount; Case/Package: SOT-23-5; Number of Pins: 5; Contact Plating: Gold; Min Operating Temperature: -40°C; Max Operating Temperature: 125°C; Package Quantity: 1; Packaging: Tape and Reel; Number of Monitored Inputs: 1; Type: Watchdog Circuit; Radiation Hardening: No; Lead Free: Lead Free; ComponentLink1URL: http://www.st.com/st-web-ui/static/active/en/resource/technical/document/datasheet/CD00176077.pdf?src-supplier=Avnet; ComponentLink1Description: http://www.st.com/st-web-ui/static/active/en/resource/technical/document/datasheet/CD00176077.pdf?src-supplier=Avnet; ComponentLink2URL: http://www.st.com/content/ccc/resource/sales_and_marketing/promotional_material/flyer/52/2d/7f/6c/74/bb/43/70/flcarefree1213.pdf/files/flcarefree1213.pdf/jcr:content/translations/en.flcarefree1213.pdf?src-supplier=Digi-Key; ComponentLink2Description: http://www.st.com/content/ccc/resource/sales_and_marketing/promotional_material/flyer/52/2d/7f/6c/74/bb/43/70/flcarefree1213.pdf/files/flcarefree1213.pdf/jcr:content/translations/en.flcarefree1213.pdf?src-supplier=Digi-Key; ComponentLink3URL: http://www.st.com/content/ccc/resource/technical/document/datasheet/06/6a/b3/83/9a/c7/4f/22/CD00176077.pdf/files/CD00176077.pdf/jcr:content/translations/en.CD00176077.pdf?src-supplier=Digi-Key; ComponentLink3Description: http://www.st.com/content/ccc/resource/technical/document/datasheet/06/6a/b3/83/9a/c7/4f/22/CD00176077.pdf/files/CD00176077.pdf/jcr:content/translations/en.CD00176077.pdf?src-supplier=Digi-Key; Supplier Part Number 1: 497-14411-6-ND
footprint SOT-23-5 (SOT23, 5-Leads, Body 3.00x2.75mm, Pitch 0.95mm, IPC Medium Density)
pins: 1 ~{WDO}, 2 GND, 3 ~{EN}, 4 WDI, 5 VCC